# Altium schematic symbol library Schlib1.SchLib: 1 symbol
Pins are listed as number, name and electrical type; pins without a type are passive.

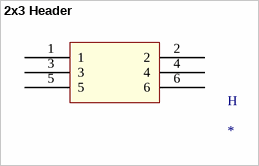
[diagram p0: symbol 2x3 Header]

## 2x3 Header
designator H
footprint 2x3 Header (Footprint not found)
pins: 1, 2, 3, 4, 5, 6